# EAGLE library part RAK4630 (library RAK4630)
RF IC Transceiver Bluetooth, LoRa 915MHz, 920MHz, 923MHz SPI Interface Source: Datasheet <https://dl-docs.rakwireless.com/api/render/?emulateScreenMedia=false&pdf.format=legal&url=https://docs.rakwireless.com/Product-Categories/WisDuo/RAK4630-Module/Datasheet/>
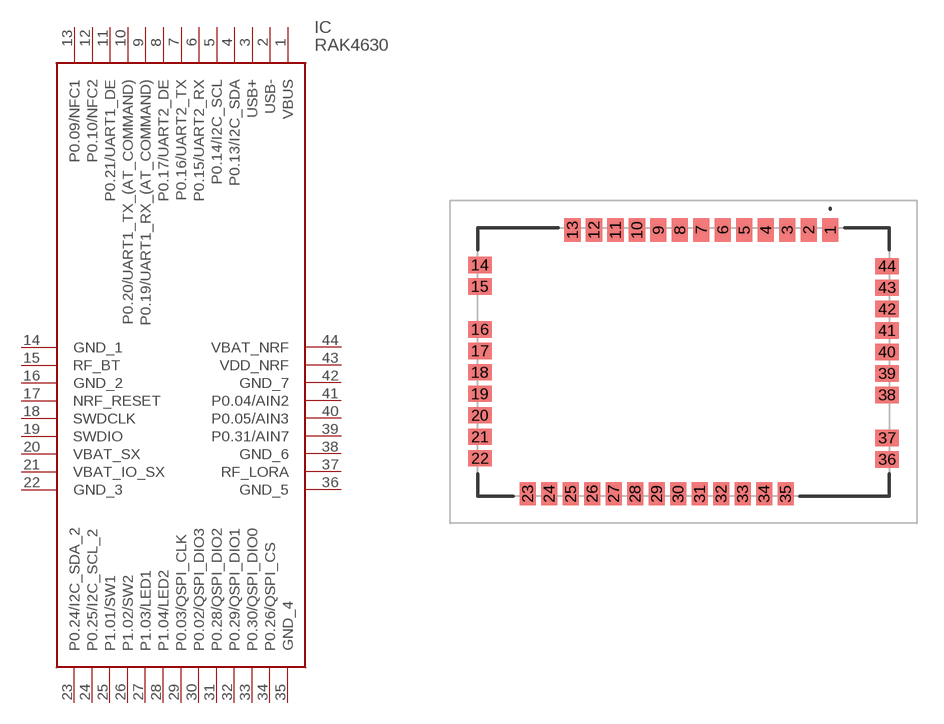
[diagram p0: symbol with the pads of RAK4630; footprint RAK4630]

Designator prefix IC

## RAK4630 (Description: RF IC Transceiver Bluetooth, LoRa 915MHz, 920MHz, 923MHz SPI Interface; Height: 3mm; Manufacturer_Name: RAK; Manufacturer_Part_Number: RAK4630)  [RAK4630]
1  VBUS
2  USB-
3  USB+
4  P0.13/I2C_SDA
5  P0.14/I2C_SCL
6  P0.15/UART2_RX
7  P0.16/UART2_TX
8  P0.17/UART2_DE
9  P0.19/UART1_RX_(AT_COMMAND)
10  P0.20/UART1_TX_(AT_COMMAND)
11  P0.21/UART1_DE
12  P0.10/NFC2
13  P0.09/NFC1
14  GND_1
15  RF_BT
16  GND_2
17  NRF_RESET
18  SWDCLK
19  SWDIO
20  VBAT_SX
21  VBAT_IO_SX
22  GND_3
23  P0.24/I2C_SDA_2
24  P0.25/I2C_SCL_2
25  P1.01/SW1
26  P1.02/SW2
27  P1.03/LED1
28  P1.04/LED2
29  P0.03/QSPI_CLK
30  P0.02/QSPI_DIO3
31  P0.28/QSPI_DIO2
32  P0.29/QSPI_DIO1
33  P0.30/QSPI_DIO0
34  P0.26/QSPI_CS
35  GND_4
36  GND_5
37  RF_LORA
38  GND_6
39  P0.31/AIN7
40  P0.05/AIN3
41  P0.04/AIN2
42  GND_7
43  VDD_NRF
44  VBAT_NRF

## Footprint RAK4630 (pad centres in mm)
RAK4630-1
smd 0.9 x 1.3: 1 8.2,7.37; 2 7,7.37; 3 5.8,7.37; 4 4.6,7.37; 5 3.4,7.37; 6 2.2,7.37; 7 1,7.37; 8 -0.2,7.37; 9 -1.4,7.37; 10 -2.6,7.37; 11 -3.8,7.37; 12 -5,7.37; 13 -6.2,7.37; 23 -8.7,-7.37; 24 -7.5,-7.37; 25 -6.3,-7.37; 26 -5.1,-7.37; 27 -3.9,-7.37; 28 -2.7,-7.37; 29 -1.5,-7.37; 30 -0.3,-7.37; 31 0.9,-7.37; 32 2.1,-7.37; 33 3.3,-7.37; 34 4.5,-7.37; 35 5.7,-7.37
smd 1.3 x 0.9: 14 -11.37,5.41; 15 -11.37,4.21; 16 -11.37,1.81; 17 -11.37,0.61; 18 -11.37,-0.59; 19 -11.37,-1.79; 20 -11.37,-2.99; 21 -11.37,-4.19; 22 -11.37,-5.39; 36 11.37,-5.45; 37 11.37,-4.25; 38 11.37,-1.85; 39 11.37,-0.65; 40 11.37,0.55; 41 11.37,1.75; 42 11.37,2.95; 43 11.37,4.15; 44 11.37,5.35